# EAGLE library part B3 (library RF)
FILTER SAW 915MHZ/869MHZ REMOTE SMD 869MHz - B3725 <https://en.rf360jv.com/inf/40/ds/ae/B3725.pdf> 915MHz - B3588 <http://en.tdk.eu/inf/40/ds/ae/B3588.pdf>
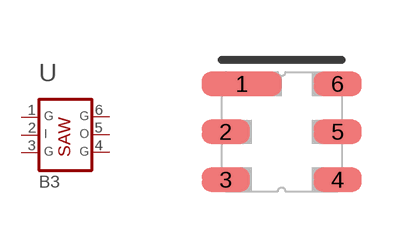
[diagram p7: symbol with the pads of SAW_6SMD_3X3MM; footprint SAW_6SMD_3X3MM]

Designator prefix U

## B3588 (DATASHEET: https://media.digikey.com/pdf/Data%20Sheets/Qualcomm%20PDFs/B39921B3588U410.pdf; DESC: FILTER SAW 915MHZ REMOTE SMD; FEAT: AEC-Q200; FREQ: 915MHz; MANF: Qualcomm / TDK; MFPN: B39921B3588U410; PARTNO: 12-100031-00; STATUS: Active), B3725 (DATASHEET: https://en.rf360jv.com/inf/40/ds/ae/B3725.pdf; DESC: FILTER SAW 869.0MHZ SMD; FEAT: AEC-Q200; FREQ: 869MHz; MANF: Qualcomm / TDK; MFPN: B39871B3725U410; PARTNO: 12-100033-00; STATUS: Active)  [SAW_6SMD_3X3MM]
1  1  pas
2  2  pas
3  3  pas
4  4  pas
5  5  pas
6  6  pas

## Footprint SAW_6SMD_3X3MM (pad centres in mm)
EPCOS Ceramic Package DCC6C, 6-SMD 3x3mm Footprint Reference <http://en.tdk.eu/blob/530942/download/3/pdf-an93.pdf>
smd 2 x 0.6: 1 -1,1.2
smd 1.2 x 0.6: 2 -1.4,0; 3 -1.4,-1.2; 4 1.4,-1.2; 5 1.4,0; 6 1.4,1.2